# EAGLE library part OPA2228 (library SmartMDCPrint)
High Precision, Low Noise OPERATIONAL AMPLIFIER
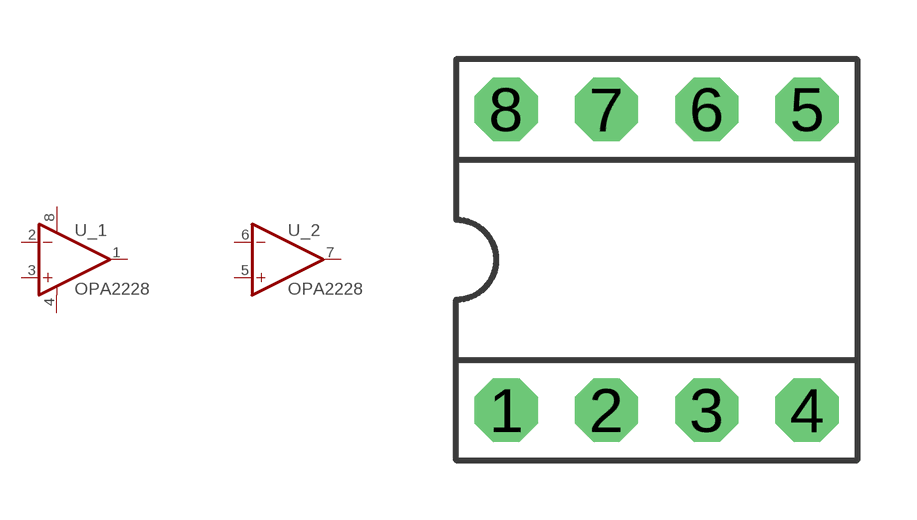
[diagram p7: symbol with the pads of DIL08; footprint DIL08]

Designator prefix U; gates _1=OP-AMP+- _2=OP-AMP

## OPA2228  [DIL08]
1  _1:OUT  out
2  _1:-IN  in
3  _1:+IN  in
4  _1:V-  pwr
5  _2:+IN  in
6  _2:-IN  in
7  _2:OUT  out
8  _1:V+  pwr

## Footprint DIL08 (pad centres in mm)
Dual In Line
drill 0.813 pad 1.6 octagon: 1 -3.81,-3.81; 2 -1.27,-3.81; 3 1.27,-3.81; 4 3.81,-3.81; 5 3.81,3.81; 6 1.27,3.81; 7 -1.27,3.81; 8 -3.81,3.81